# Altium footprint library JST_S8B-PH-SM4-TB.PcbLib: 1 footprints
Each footprint in its own frame and in the unit in brackets; x right, y up, seen from the top. Pads: shape width x height; smd on the part's side, far side on the other; paste and mask are expansions set on the pad; w line width, h text height; cw(c..) or ccw(c..) is an arc to the next point about the centre after c.
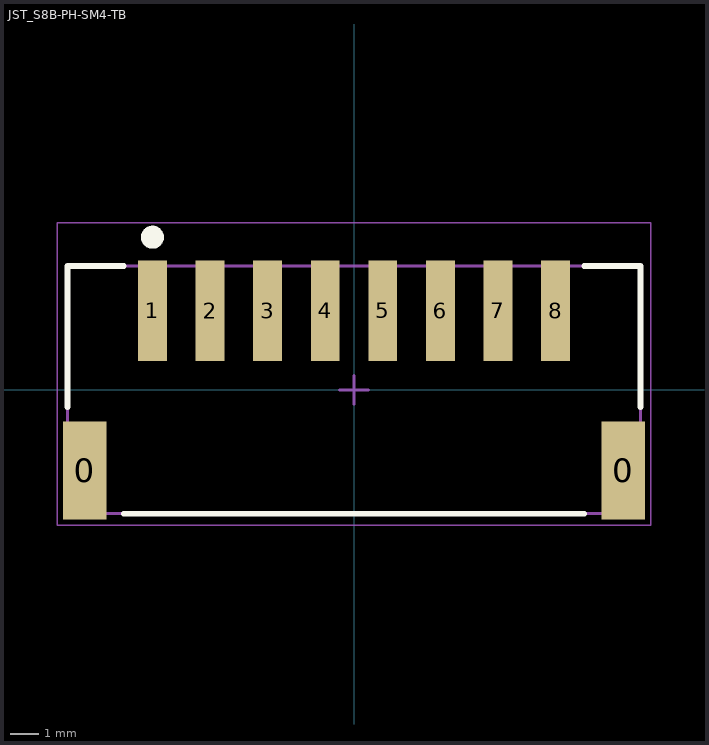
[diagram p0: the footprint, top view; thin cyan lines are the x and y axes]

## JST_S8B-PH-SM4-TB [mm]
height 5.5
pads (10):
  rect 1.5x3.4 smd: 0(-9.35,-2.8) 0(9.35,-2.8)
  rect 1x3.5 smd: 1(-7,2.75) 2(-5,2.75) 3(-3,2.75) 4(-1,2.75) 5(1,2.75) 6(3,2.75) 7(5,2.75) 8(7,2.75)
Top Overlay:
  circle w0.4: c-7,5.3 r0.2
  lines w0.2: -9.95,-0.6 -9.95,4.3 -8,4.3 ; -8,-4.3 8,-4.3 ; 8,4.3 9.95,4.3 9.95,-0.6
Mechanical 13:
  lines w0.1: -9.95,-4.3 -9.95,4.3 9.95,4.3 9.95,-4.3 -9.95,-4.3
Mechanical 15:
  lines w0.05: -10.3,-4.7 10.3,-4.7 10.3,5.8 -10.3,5.8 -10.3,-4.7
  lines w0.1: -0.5,0 0.5,0 ; 0,-0.5 0,0.5
3D body "JST_S8B-PH-SM4-TB.STEP": height 5.5, standoff -0.1, extent -9.95,-4.3 9.95,4.3